# EAGLE library part CUSTOM_5110_DISPLAY (library v13)
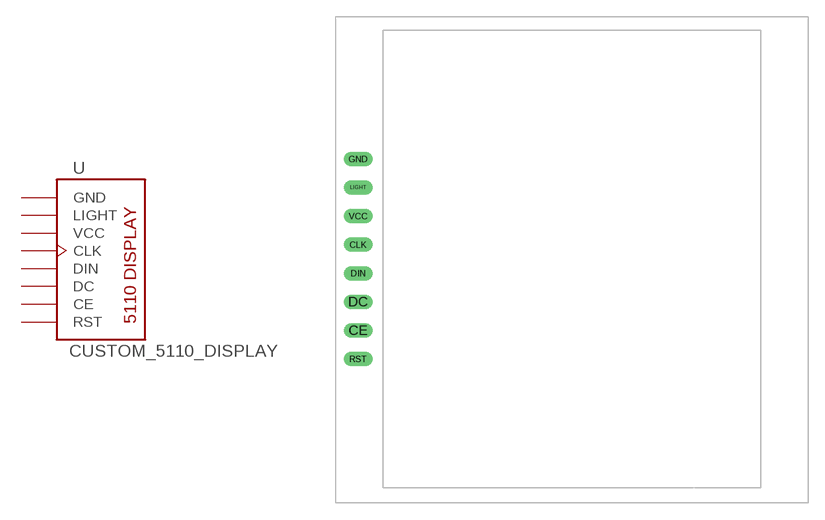
[diagram p6: symbol with the pads of CUSTOM_5110_LAYOUT; footprint CUSTOM_5110_LAYOUT]

Designator prefix -

## CUSTOM_5110_DISPLAY  [CUSTOM_5110_LAYOUT]
CE  CE
CLK  CLK
DC  DC
DIN  DIN
GND  GND
LIGHT  LIGHT
RST  RST
VCC  VCC

## Footprint CUSTOM_5110_LAYOUT (pad centres in mm)
drill 0.8 long: CE 0,-5.08; CLK 0,2.54; DC 0,-2.54; DIN 0,0; GND 0,10.16; LIGHT 0,7.62; RST 0,-7.62; VCC 0,5.08